# Altium schematic symbol library nRF52832-CIAA-G-R7.SchLib: 1 symbol
Pins are listed as number, name and electrical type; pins without a type are passive.

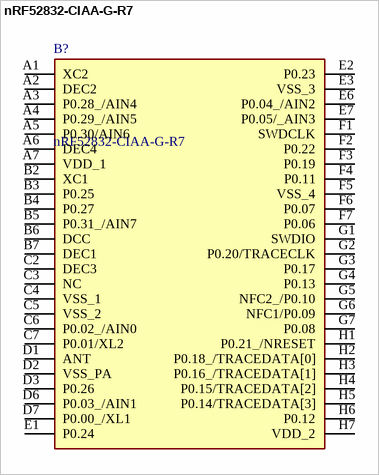
[diagram p0: symbol nRF52832-CIAA-G-R7]

## nRF52832-CIAA-G-R7
designator B?
RF System on a Chip - SoC Versatile Bluetooth 5.3 SoC supporting Bluetooth Low Energy, Bluetooth mesh and NFC; Manufacturer_Name: Nordic Semiconductor; Geometry.Height: 0.399mm; Mouser Part Number: 949-NRF52832CIAAG-R7; Mouser Price/Stock: https://www.mouser.co.uk/ProductDetail/Nordic-Semiconductor/nRF52832-CIAA-G-R7?qs=TCDPyi3sCW0%252B18bmEBENMQ%3D%3D; Manufacturer_Part_Number: nRF52832-CIAA-G-R7; Datasheet Link: https://infocenter.nordicsemi.com/pdf/nRF52832_PS_v1.8.pdf
footprint BGA50C40P7X8_296X323X40
pins: A1 XC2, A2 DEC2, A3 P0.28_/AIN4, A4 P0.29_/AIN5, A5 P0.30/AIN6, A6 DEC4, A7 VDD_1, B2 XC1, B3 P0.25, B4 P0.27, B5 P0.31_/AIN7, B6 DCC, B7 DEC1, C2 DEC3, C3 NC, C4 VSS_1, C5 VSS_2, C6 P0.02_/AIN0, C7 P0.01/XL2, D1 ANT, D2 VSS_PA, D3 P0.26, D6 P0.03_/AIN1, D7 P0.00_/XL1, E1 P0.24, E2 P0.23, E3 VSS_3, E6 P0.04_/AIN2, E7 P0.05/_AIN3, F1 SWDCLK, F2 P0.22, F3 P0.19, F4 P0.11, F5 VSS_4, F6 P0.07, F7 P0.06, G1 SWDIO, G2 P0.20/TRACECLK, G3 P0.17, G4 P0.13, G5 NFC2_/P0.10, G6 NFC1/P0.09, G7 P0.08, H1 P0.21_/NRESET, H2 P0.18_/TRACEDATA[0], H3 P0.16_/TRACEDATA[1], H4 P0.15/TRACEDATA[2], H5 P0.14/TRACEDATA[3], H6 P0.12, H7 VDD_2